# Altium footprint library 05.PcbLib: 17 footprints (part 2 of 2)
Each footprint in its own frame and in the unit in brackets; x right, y up, seen from the top. Pads: shape width x height; smd on the part's side, far side on the other; paste and mask are expansions set on the pad; w line width, h text height; cw(c..) or ccw(c..) is an arc to the next point about the centre after c.
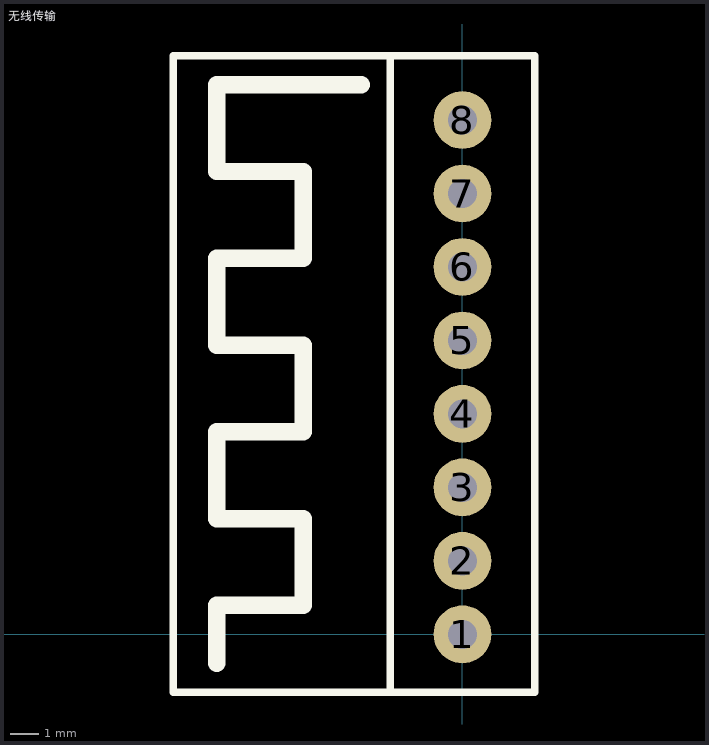
[diagram p1: the footprint, top view; thin cyan lines are the x and y axes]

## 无线传输 [mm]
pads (8):
  round 2 hole 1 paste+0: 1(0,0) 2(0,2.54) 3(0,5.08) 4(0,7.62) 5(0,10.16) 6(0,12.7) 7(0,15.24) 8(0,17.78)
Top Overlay:
  lines w0.254: -2.5,-2 -2.5,20 ; -1,-2 2.5,-2 2.5,20 -10,20 -10,-2 -0.5,-2
  lines w0.6: -8.5,-1 -8.5,1 -5.5,1 -5.5,4 -8.5,4 -8.5,7 -5.5,7 -5.5,10 -8.5,10 -8.5,13 -5.5,13 -5.5,16 -8.5,16 -8.5,19 -3.5,19